# Altium schematic symbol library P-MOSFET-8L.Schlib: 1 symbol
Pins are listed as number, name and electrical type; pins without a type are passive.

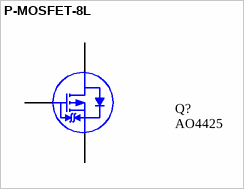
[diagram p0: symbol P-MOSFET-8L]

## P-MOSFET-8L
designator Q?, comment AO4425
AO4425, P-MOSFET, 38V, 14A, 11mOhms, 3.1W, 75 degC/W, 63nC
pins: 1 S, 2 S, 3 S, 4 G, 5 D, 6 D, 7 D, 8 D